# Altium footprint library m2m V200.PcbLib: 21 footprints (part 2 of 2)
Each footprint in its own frame and in the unit in brackets; x right, y up, seen from the top. Pads: shape width x height; smd on the part's side, far side on the other; paste and mask are expansions set on the pad; w line width, h text height; cw(c..) or ccw(c..) is an arc to the next point about the centre after c.
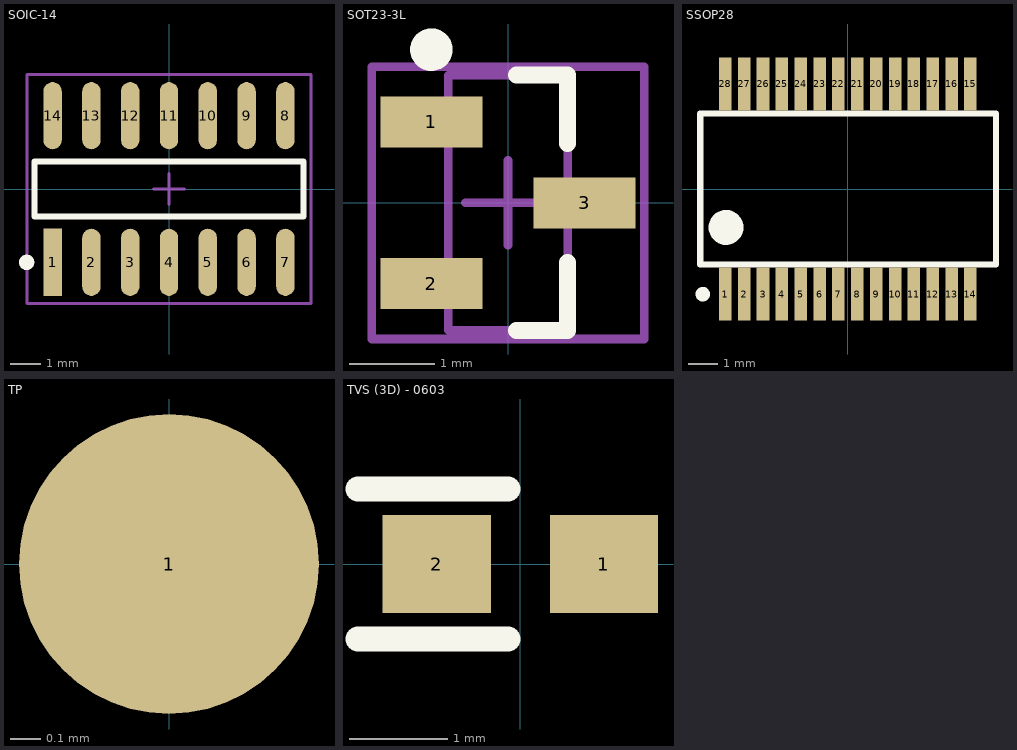
[diagram p1: the footprints below, top view; thin cyan lines are the x and y axes]

## SOIC-14 [mm] "SOIC-14  NARROW BODY"
pads (14):
  rect 0.6x2.2 smd: 1(-3.81,-2.4)
  oval 0.6x2.2 smd: 2(-2.54,-2.4) 3(-1.27,-2.4) 4(0,-2.4) 5(1.27,-2.4) 6(2.54,-2.4) 7(3.81,-2.4) 8(3.81,2.4) 9(2.54,2.4) 10(1.27,2.4) 11(0,2.4) 12(-1.27,2.4) 13(-2.54,2.4) 14(-3.81,2.4)
Top Overlay:
  circle w0.25: c-4.66,-2.4 r0.125
  lines w0.2: -4.4,-0.9 -4.4,0.9 4.4,0.9 4.4,-0.9 -4.4,-0.9
Mechanical 15:
  lines w0.1: -0.5,0 0.5,0 ; 0,-0.5 0,0.5 ; -4.65,-3.75 -4.65,3.75 4.65,3.75 4.65,-3.75 -4.65,-3.75
3D body: height 1.75, standoff 0, extent -4.375,-3 4.375,3

## SOT23-3L [mm] "SOT23, 3-Leads, Body 2.9x1.3mm, Pitch 0.95mm, Lead Span 2.5mm, IPC High Density"
height 1.1
pads (3):
  rect 1.2x0.6 smd: 1(-0.9,0.95) 2(-0.9,-0.95) 3(0.9,0)
Top Overlay:
  circle w0.25: c-0.9,1.8 r0.125
  lines w0.2: 0.1,-1.5 0.7,-1.5 0.7,-0.7 ; 0.1,1.5 0.7,1.5 0.7,0.7
Mechanical 13:
  lines w0.1: -0.7,-1.5 0.7,-1.5 0.7,1.5 -0.7,1.5 -0.7,-1.5
Mechanical 15:
  lines w0.1: -0.5,0 0.5,0 ; 0,-0.5 0,0.5 ; -1.6,-1.6 1.6,-1.6 1.6,1.6 -1.6,1.6 -1.6,-1.6
3D body: height 1.12, standoff 0.02, extent -1.25,-1.5 1.25,1.5

## SSOP28 [mil]
pads (28):
  rect 17x72 smd: 1(-166.34,-142.72) 2(-140.75,-142.72) 3(-115.16,-142.72) 4(-89.57,-142.72) 5(-63.98,-142.72) 6(-38.39,-142.72) 7(-12.79,-142.72) 8(12.8,-142.72) 9(38.38,-142.72) 10(63.97,-142.72) 11(89.56,-142.72) 12(115.15,-142.72) 13(140.74,-142.72) 14(166.33,-142.72) 15(166.33,142.72) 16(140.74,142.72) 17(115.15,142.72) 18(89.56,142.72) 19(63.97,142.72) 20(38.38,142.72) 21(12.8,142.72) 22(-12.79,142.72) 23(-38.39,142.72) 24(-63.98,142.72) 25(-89.57,142.72) 26(-115.16,142.72) 27(-140.75,142.72) 28(-166.34,142.72)
Top Overlay:
  circle w9.84: c-196.85,-142.72 r4.92
  circle w23.62: c-165.35,-52.17 r11.81
  rectangle: -204.72,-102.36 -200,102.36
  lines w8: -200.79,-102.36 200.78,-102.36 200.78,102.36 -200.79,102.36 ; -200,-102.36 -200,102.36
3D body: height 84.65, standoff 0, extent -203.35,-152.67 203.35,152.68

## TP [mm] "Test Point, Single Side, No Hole"
pads (1):
  round 1 smd: 1(0,0)

## TVS (3D) - 0603 [mm]
height 0.025
pads (2):
  rect 1.1x1 smd: 1(0.85,0) 2(-0.85,0)
Top Overlay:
  lines w0.254: -1.651,-0.762 -0.127,-0.762 ; -1.651,0.762 -0.127,0.762
3D body: height 0.72, standoff 0.02, extent -0.8,-0.4 0.8,0.4